# Altium footprint library Teensy.PcbLib: 3 footprints
Each footprint in its own frame and in the unit in brackets; x right, y up, seen from the top. Pads: shape width x height; smd on the part's side, far side on the other; paste and mask are expansions set on the pad; w line width, h text height; cw(c..) or ccw(c..) is an arc to the next point about the centre after c.
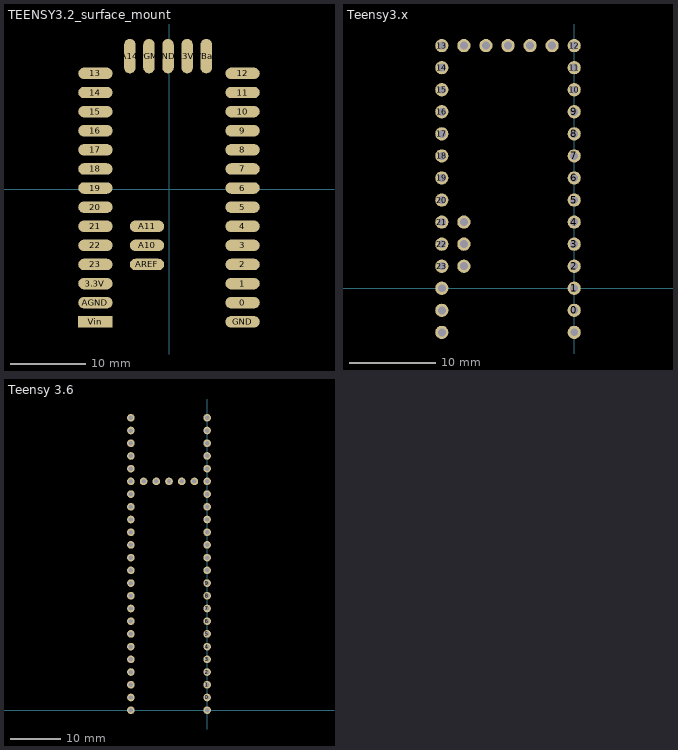
[diagram p0: the footprints below, top view; thin cyan lines are the x and y axes]

## TEENSY3.2_surface_mount [mil]
pads (36):
  oval 180x60 smd: 0(385,-595) 1(385,-495) 2(385,-395) 3(385,-295) 4(385,-195) 5(385,-95) 6(385,5) 7(385,105) 8(385,205) 9(385,305) 10(385,405) 11(385,505) 12(385,605) 13(-385,605) 14(-385,505) 15(-385,405) 16(-385,305) 17(-385,205) 18(-385,105) 19(-385,5) 20(-385,-95) 21(-385,-195) 22(-385,-295) 23(-385,-395) A10(-115,-295) A11(-115,-195) AGND(-385,-595) AREF(-115,-395) GND(385,-695)
  oval 180x60 smd paste+0: 3.3V(-385,-495)
  oval 60x180 smd: 3.3V2(95,695) A14(-205,695) GND2(-5,695) PGM(-105,695) VBat(195,695)
  rect 180x60 smd: Vin(-385,-695)

## Teensy3.x [mil]
pads (36):
  round 60 hole 35: 0(0,-100) GND(0,-200)
  round 60 hole 36: 1(0,0) 2(0,100) 3(0,200) 3.3V2(-200,1100) 4(0,300) 5(0,400) 6(0,500) 7(0,600) 8(0,700) 9(0,800) 10(0,900) 11(0,1000) 12(0,1100) 13(-600,1100) 14(-600,1000) 15(-600,900) 16(-600,800) 17(-600,700) 18(-600,600) 19(-600,500) 20(-600,400) 21(-600,300) 22(-600,200) 23(-600,100) A10(-500,200) A11(-500,300) A14(-500,1100) AGND(-600,-100) AREF(-500,100) GND2(-300,1100) PGM(-400,1100) VBat(-100,1100) Vin(-600,-200)
  round 60 hole 36 paste+0: 3.3V(-600,0)

## Teensy 3.6 [mil]
height 195
pads (53):
  round 60 hole 35: 0(0,100) 1(0,200) 2(0,300) 3(0,400) 3.3V(-600,200) 3.3V_2(0,1400) 3.3V_3(-200,1800) 4(0,500) 5(0,600) 6(0,700) 7(0,800) 8(0,900) 9(0,1000) 10(0,1100) 11(0,1200) 12(0,1300) 13(-600,1300) 14(-600,1200) 15(-600,1100) 16(-600,1000) 17(-600,900) 18(-600,800) 19(-600,700) 20(-600,600) 21(-600,500) 22(-600,400) 23(-600,300) 24(0,1500) 25(0,1600) 26(0,1700) 27(0,1800) 28(0,1900) 29(0,2000) 30(0,2100) 31(0,2200) 32(0,2300) 33(-600,2300) 34(-600,2200) 35(-600,2100) 36(-600,2000) 37(-600,1900) 38(-600,1800) 39(-600,1700) AGND(-600,100) DAC0(-600,1600) DAC1(-600,1500) GND(0,0) GND2(-600,1400) GND3(-300,1800) PGM(-400,1800) RST(-500,1800) VBat(-100,1800) Vin(-600,0)